# Altium footprint library SamacSys.PcbLib: 2 footprints
Each footprint in its own frame and in the unit in brackets; x right, y up, seen from the top. Pads: shape width x height; smd on the part's side, far side on the other; paste and mask are expansions set on the pad; w line width, h text height; cw(c..) or ccw(c..) is an arc to the next point about the centre after c.
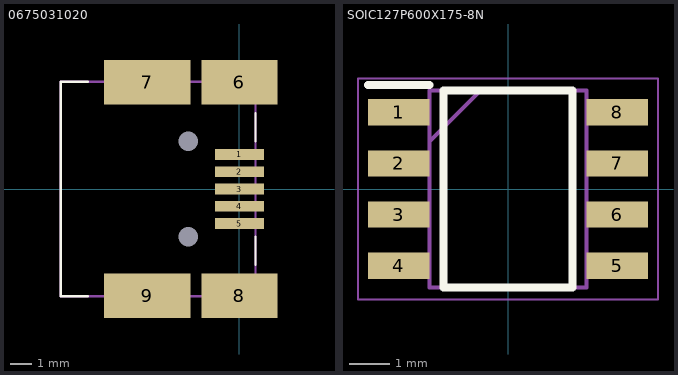
[diagram p0: the footprints below, top view; thin cyan lines are the x and y axes]

## 0675031020 [mm]
pads (11):
  rect 2.25x0.5 smd: 1(0,1.6) 2(0,0.8) 3(0,0) 4(0,-0.8) 5(0,-1.6)
  rect 3.5x2.05 smd: 6(0,4.925) 8(0,-4.925)
  rect 4x2.05 smd: 7(-4.25,4.925) 9(-4.25,-4.925)
  round 0 hole 0.9 unplated: 10(-2.35,2.2) 11(-2.35,-2.2)
Top Overlay:
  lines w0.1: -7,-4.95 -8.25,-4.95 -8.25,4.95 -7,4.95 ; 0.75,-3.5 0.75,-2.2 ; 0.75,2.2 0.75,3.5
Mechanical 13:
  lines w0.1: -8.25,-4.95 0.75,-4.95 0.75,4.95 -8.25,4.95 -8.25,-4.95
3D body "0675031020.stp": height 3.95, standoff -1, extent -8.19,-4.95 0.81,4.95

## SOIC127P600X175-8N [mm]
pads (8):
  rect 1.525x0.65 smd: 1(-2.712,1.905) 2(-2.712,0.635) 3(-2.712,-0.635) 4(-2.712,-1.905) 5(2.712,-1.905) 6(2.712,-0.635) 7(2.712,0.635) 8(2.712,1.905)
Top Overlay:
  lines w0.2: -3.475,2.58 -1.95,2.58 ; -1.6,-2.45 1.6,-2.45 1.6,2.45 -1.6,2.45 -1.6,-2.45
Mechanical 13:
  lines w0.1: -1.95,1.18 -0.68,2.45 ; -1.95,-2.45 1.95,-2.45 1.95,2.45 -1.95,2.45 -1.95,-2.45
Mechanical 15:
  lines w0.05: -3.725,-2.75 3.725,-2.75 3.725,2.75 -3.725,2.75 -3.725,-2.75
3D body "NE555DR.stp": height 1.75, standoff 0, extent -3,-2.45 3,2.45